# EAGLE library part MPXH6115A6U_6T1 (library MPXH6115A6U_6T1)
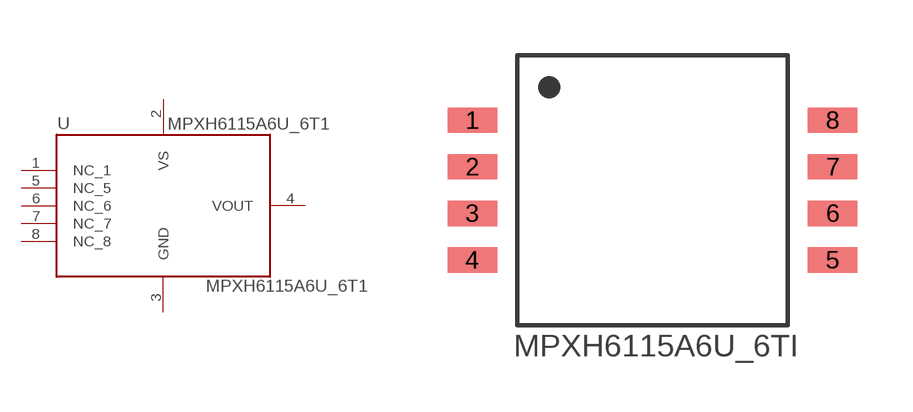
[diagram p0: symbol with the pads of 1317A-03; footprint 1317A-03]

Designator prefix -

## MPXH6115A6U_6T1  [1317A-03]
1  NC_1
2  VS
3  GND
4  VOUT
5  NC_5
6  NC_6
7  NC_7
8  NC_8

## Footprint 1317A-03 (pad centres in mm)
smd 1.35 x 0.69: 1 0,0; 2 0,-1.27; 3 0,-2.54; 4 0,-3.81; 5 9.83,-3.81; 6 9.83,-2.54; 7 9.83,-1.27; 8 9.83,0